# EAGLE library part ESQ-105-44-G-D (library CONNECTORs)
Board-To-Board Connector, Vertical, 2.54 mm, 10 Contacts, Receptacle, ESQ Series, Through Hole, 18.67mm height.
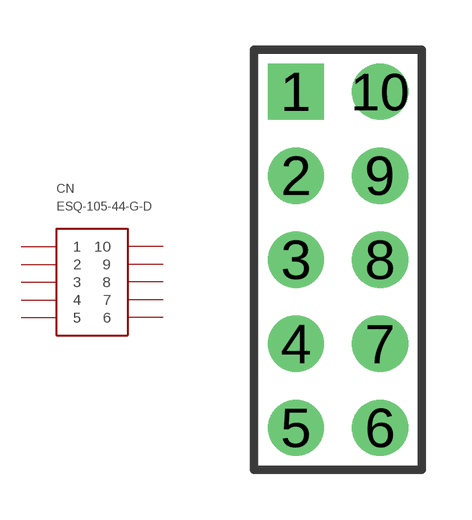
[diagram p34: symbol with the pads of 2X5HEADER; footprint 2X5HEADER]

Designator prefix CN

## ESQ-105-44-G-D (FARNELL: 1930156; PRICE_PER: 3.38; VALUE: 2X5PIN FEMALE)  [2X5HEADER]
1  1
2  2
3  3
4  4
5  5
6  6
7  7
8  8
9  9
10  10

## Footprint 2X5HEADER (pad centres in mm)
drill 1 pad 1.7 square: 1 -1.27,5.08
drill 1 pad 1.7: 2 -1.27,2.54; 3 -1.27,0; 4 -1.27,-2.54; 5 -1.27,-5.08; 6 1.27,-5.08; 7 1.27,-2.54; 8 1.27,0; 9 1.27,2.54; 10 1.27,5.08